# Altium schematic symbol library Lib.SchLib: 4 symbols
Pins are listed as number, name and electrical type; pins without a type are passive.

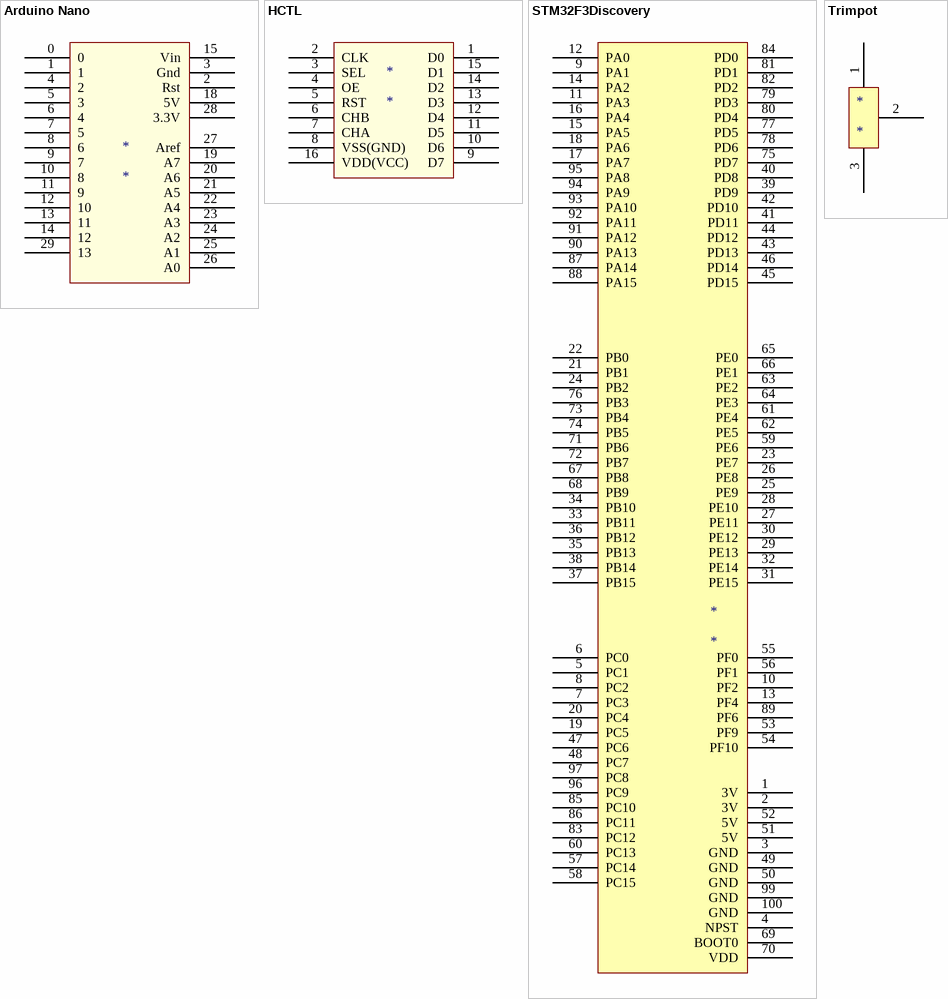
[diagram p0: symbols Arduino Nano to Trimpot]

## Arduino Nano
designator *
footprint Arduino Nano
pins: 0, 1, 2 Rst, 3 Gnd, 4 2, 5 3, 6 4, 7 5, 8 6, 9 7, 10 8, 11 9, 12 10, 13 11, 14 12, 15 Vin, 18 5V, 19 A7, 20 A6, 21 A5, 22 A4, 23 A3, 24 A2, 25 A1, 26 A0, 27 Aref, 28 3.3V, 29 13

## HCTL
designator *
footprint PCBComponent_1
pins: 1 D0, 2 CLK, 3 SEL, 4 OE, 5 RST, 6 CHB, 7 CHA, 8 VSS(GND), 9 D7, 10 D6, 11 D5, 12 D4, 13 D3, 14 D2, 15 D1, 16 VDD(VCC)

## STM32F3Discovery
designator *
footprint STM32F3
pins: 1 3V, 2 3V, 3 GND, 4 NPST, 5 PC1, 6 PC0, 7 PC3, 8 PC2, 9 PA1, 10 PF2, 11 PA3, 12 PA0, 13 PF4, 14 PA2, 15 PA5, 16 PA4, 17 PA7, 18 PA6, 19 PC5, 20 PC4, 21 PB1, 22 PB0, 23 PE7, 24 PB2, 25 PE9, 26 PE8, 27 PE11, 28 PE10, 29 PE13, 30 PE12, 31 PE15, 32 PE14, 33 PB11, 34 PB10, 35 PB13, 36 PB12, 37 PB15, 38 PB14, 39 PD9, 40 PD8, 41 PD11, 42 PD10, 43 PD13, 44 PD12, 45 PD15, 46 PD14, 47 PC6, 48 PC7, 49 GND, 50 GND, 51 5V, 52 5V, 53 PF9, 54 PF10, 55 PF0, 56 PF1, 57 PC14, 58 PC15, 59 PE6, 60 PC13, 61 PE4, 62 PE5, 63 PE2, 64 PE3, 65 PE0, 66 PE1, 67 PB8, 68 PB9, 69 BOOT0, 70 VDD, 71 PB6, 72 PB7, 73 PB4, 74 PB5, 75 PD7, 76 PB3, 77 PD5, 78 PD6, 79 PD3, 80 PD4, 81 PD1, 82 PD2, 83 PC12, 84 PD0, 85 PC10, 86 PC11, 87 PA14, 88 PA15, 89 PF6, 90 PA13, 91 PA12, 92 PA11, 93 PA10, 94 PA9, 95 PA8, 96 PC9, 97 PC8, 99 GND, 100 GND

## Trimpot
designator *
footprint Trimpot
pins: 1, 2, 3